# Altium schematic symbol library Terminal_Blocks_Barrier_9.5mm.SchLib: 9 symbols
Pins are listed as number, name and electrical type; pins without a type are passive.

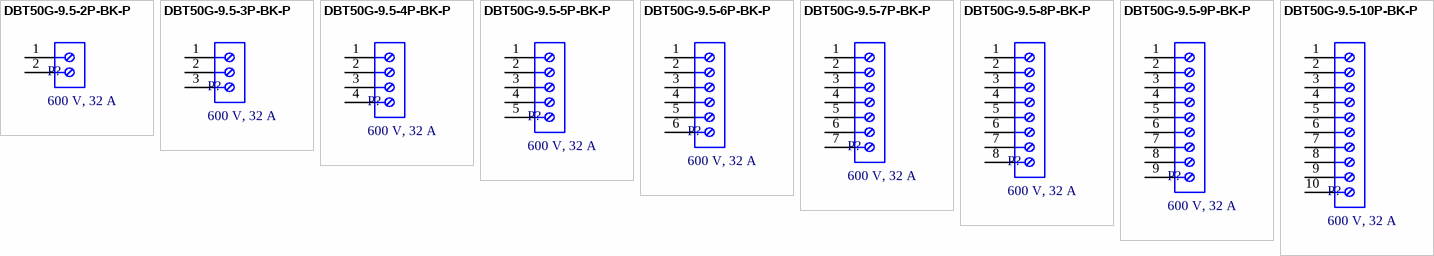
[diagram p0: symbols DBT50G-9.5-2P-BK-P to DBT50G-9.5-10P-BK-P]

## DBT50G-9.5-2P-BK-P
designator P?, comment 600 V, 32 A
1x2P Corner With Cover Plate 2 1 9.5mm -40℃~+105℃ 32A 750V Black 12~22 Straight Needle 4 Plugin,P=9.5mm Barrier Terminal Blocks ROHS; Manufacturer Part Number: DBT50G-9.5-2P-BK-P OGC; Manufacturer: DORABO; Match Code: DBT; Working Voltage: 600 V; Application: With Cover Plate; Category: Terminal Blocks; ComponentLink1Description: Datasheet; ComponentLink1URL: https://www.lcsc.com/datasheet/C395958.pdf?spm=wm.sxq.inf.ggs___wm.fly.bg.0.xh&lcsc_vid=FQMKBABWTgUIBQJQFFEMBgBUFFIPVlNeFQReAQVWFFgxVlNeQVhYV1ZeTlNXUzsOAxUeFF5JWBYZEEoKFBINSQcJGk4NBhADEA4cHktXR1JaSQwSGg0%3D; LCSC Part #: C395958; Mount: Through Hole; Number of Pins: 2; Number of Rows: 1; Operating Temperature Max: 105°C; Operating Temperature Min: -40°C; Orientation: Horizontal; Packaging: Box; Pitch: 9.5 mm; Rated Current: 32 A; Supplier 1 Part Number: N/A; Supplier 1 URL: N/A; Supplier 1: Mouser; Supplier 2 Part Number: N/A; Supplier 2 URL: N/A; Supplier 2: Digi-Key; Supplier 3 Part Number: N/A; Supplier 3 URL: N/A; Supplier 3: thegioiic; Value: 600 V, 32 A
footprint DBT50G-9.5-2P-BK-P
pins: 1, 2

## DBT50G-9.5-3P-BK-P
designator P?, comment 600 V, 32 A
1x3P Corner With Cover Plate 3 1 9.5mm -40℃~+105℃ 32A 750V Black 12~22 Straight Needle 4 Plugin,P=9.5mm Barrier Terminal Blocks ROHS; Manufacturer: DORABO; Manufacturer Part Number: DBT50G-9.5-3P-BK-P OGC; Match Code: DBT; Working Voltage: 600 V; Application: With Cover Plate; Category: Terminal Blocks; ComponentLink1Description: Datasheet; ComponentLink1URL: https://www.lcsc.com/datasheet/C395958.pdf?spm=wm.sxq.inf.ggs___wm.fly.bg.0.xh&lcsc_vid=FQMKBABWTgUIBQJQFFEMBgBUFFIPVlNeFQReAQVWFFgxVlNeQVhYV1ZeTlNXUzsOAxUeFF5JWBYZEEoKFBINSQcJGk4NBhADEA4cHktXR1JaSQwSGg0%3D; Mount: Through Hole; Number of Pins: 3; Number of Rows: 1; Operating Temperature Max: 105°C; Operating Temperature Min: -40°C; Orientation: Horizontal; Packaging: Box; Pitch: 9.5 mm; Rated Current: 32 A; Supplier 1 Part Number: N/A; Supplier 1 URL: N/A; Supplier 1: Mouser; Supplier 2 Part Number: N/A; Supplier 2 URL: N/A; Supplier 2: Digi-Key; Supplier 3 Part Number: N/A; Supplier 3 URL: N/A; Supplier 3: thegioiic; Value: 600 V, 32 A; LCSC Part #: C395959
footprint DBT50G-9.5-3P-BK-P
pins: 1, 2, 3

## DBT50G-9.5-4P-BK-P
designator P?, comment 600 V, 32 A
1x4P Corner With Cover Plate 4 1 9.5mm -40℃~+105℃ 32A 750V Black 12~22 Straight Needle 4 Plugin,P=9.5mm Barrier Terminal Blocks ROHS; Manufacturer: DORABO; Manufacturer Part Number: DBT50G-9.5-4P-BK-P OGC; Match Code: DBT; Working Voltage: 600 V; Application: With Cover Plate; Category: Terminal Blocks; ComponentLink1Description: Datasheet; ComponentLink1URL: https://www.lcsc.com/datasheet/C395958.pdf?spm=wm.sxq.inf.ggs___wm.fly.bg.0.xh&lcsc_vid=FQMKBABWTgUIBQJQFFEMBgBUFFIPVlNeFQReAQVWFFgxVlNeQVhYV1ZeTlNXUzsOAxUeFF5JWBYZEEoKFBINSQcJGk4NBhADEA4cHktXR1JaSQwSGg0%3D; Mount: Through Hole; Number of Pins: 4; Number of Rows: 1; Operating Temperature Max: 105°C; Operating Temperature Min: -40°C; Orientation: Horizontal; Packaging: Box; Pitch: 9.5 mm; Rated Current: 32 A; Supplier 1 Part Number: N/A; Supplier 1 URL: N/A; Supplier 1: Mouser; Supplier 2 Part Number: N/A; Supplier 2 URL: N/A; Supplier 2: Digi-Key; Supplier 3 Part Number: N/A; Supplier 3 URL: N/A; Supplier 3: thegioiic; Value: 600 V, 32 A; LCSC Part #: C395960
footprint DBT50G-9.5-4P-BK-P
pins: 1, 2, 3, 4

## DBT50G-9.5-5P-BK-P
designator P?, comment 600 V, 32 A
1x5P Corner With Cover Plate 5 1 9.5mm -40℃~+105℃ 32A 750V Black 12~22 Straight Needle 4 Plugin,P=9.5mm Barrier Terminal Blocks ROHS; Manufacturer: DORABO; Manufacturer Part Number: DBT50G-9.5-5P-BK-P OGC; Match Code: DBT; Working Voltage: 600 V; Application: With Cover Plate; Category: Terminal Blocks; ComponentLink1Description: Datasheet; ComponentLink1URL: https://www.lcsc.com/datasheet/C395958.pdf?spm=wm.sxq.inf.ggs___wm.fly.bg.0.xh&lcsc_vid=FQMKBABWTgUIBQJQFFEMBgBUFFIPVlNeFQReAQVWFFgxVlNeQVhYV1ZeTlNXUzsOAxUeFF5JWBYZEEoKFBINSQcJGk4NBhADEA4cHktXR1JaSQwSGg0%3D; Mount: Through Hole; Number of Pins: 5; Number of Rows: 1; Operating Temperature Max: 105°C; Operating Temperature Min: -40°C; Orientation: Horizontal; Packaging: Box; Pitch: 9.5 mm; Rated Current: 32 A; Supplier 1 Part Number: N/A; Supplier 1 URL: N/A; Supplier 1: Mouser; Supplier 2 Part Number: N/A; Supplier 2 URL: N/A; Supplier 2: Digi-Key; Supplier 3 Part Number: N/A; Supplier 3 URL: N/A; Supplier 3: thegioiic; Value: 600 V, 32 A; LCSC Part #: C395961
footprint DBT50G-9.5-5P-BK-P
pins: 1, 2, 3, 4, 5

## DBT50G-9.5-6P-BK-P
designator P?, comment 600 V, 32 A
1x6P Corner With Cover Plate 6 1 9.5mm -40℃~+105℃ 32A 750V Black 12~22 Straight Needle 4 Plugin,P=9.5mm Barrier Terminal Blocks ROHS; Manufacturer: DORABO; Manufacturer Part Number: DBT50G-9.5-6P-BK-P OGC; Match Code: DBT; Working Voltage: 600 V; Application: With Cover Plate; Category: Terminal Blocks; ComponentLink1Description: Datasheet; ComponentLink1URL: https://www.lcsc.com/datasheet/C395958.pdf?spm=wm.sxq.inf.ggs___wm.fly.bg.0.xh&lcsc_vid=FQMKBABWTgUIBQJQFFEMBgBUFFIPVlNeFQReAQVWFFgxVlNeQVhYV1ZeTlNXUzsOAxUeFF5JWBYZEEoKFBINSQcJGk4NBhADEA4cHktXR1JaSQwSGg0%3D; Mount: Through Hole; Number of Pins: 6; Number of Rows: 1; Operating Temperature Max: 105°C; Operating Temperature Min: -40°C; Orientation: Horizontal; Packaging: Box; Pitch: 9.5 mm; Rated Current: 32 A; Supplier 1 Part Number: N/A; Supplier 1 URL: N/A; Supplier 1: Mouser; Supplier 2 Part Number: N/A; Supplier 2 URL: N/A; Supplier 2: Digi-Key; Supplier 3 Part Number: N/A; Supplier 3 URL: N/A; Supplier 3: thegioiic; Value: 600 V, 32 A; LCSC Part #: C430698
footprint DBT50G-9.5-6P-BK-P
pins: 1, 2, 3, 4, 5, 6

## DBT50G-9.5-7P-BK-P
designator P?, comment 600 V, 32 A
1x7P Corner With Cover Plate 7 1 9.5mm -40℃~+105℃ 32A 750V Black 12~22 Straight Needle 4 Plugin,P=9.5mm Barrier Terminal Blocks ROHS; Manufacturer: DORABO; Manufacturer Part Number: DBT50G-9.5-7P-BK-P OGC; Match Code: DBT; Working Voltage: 600 V; Application: With Cover Plate; Category: Terminal Blocks; ComponentLink1Description: Datasheet; ComponentLink1URL: https://www.lcsc.com/datasheet/C395958.pdf?spm=wm.sxq.inf.ggs___wm.fly.bg.0.xh&lcsc_vid=FQMKBABWTgUIBQJQFFEMBgBUFFIPVlNeFQReAQVWFFgxVlNeQVhYV1ZeTlNXUzsOAxUeFF5JWBYZEEoKFBINSQcJGk4NBhADEA4cHktXR1JaSQwSGg0%3D; Mount: Through Hole; Number of Pins: 7; Number of Rows: 1; Operating Temperature Max: 105°C; Operating Temperature Min: -40°C; Orientation: Horizontal; Packaging: Box; Pitch: 9.5 mm; Rated Current: 32 A; Supplier 1 Part Number: N/A; Supplier 1 URL: N/A; Supplier 1: Mouser; Supplier 2 Part Number: N/A; Supplier 2 URL: N/A; Supplier 2: Digi-Key; Supplier 3 Part Number: N/A; Supplier 3 URL: N/A; Supplier 3: thegioiic; Value: 600 V, 32 A; LCSC Part #: C395962
footprint DBT50G-9.5-7P-BK-P
pins: 1, 2, 3, 4, 5, 6, 7

## DBT50G-9.5-8P-BK-P
designator P?, comment 600 V, 32 A
1x8P Corner With Cover Plate 8 1 9.5mm -40℃~+105℃ 32A 750V Black 12~22 Straight Needle 4 Plugin,P=9.5mm Barrier Terminal Blocks ROHS; Manufacturer: DORABO; Manufacturer Part Number: DBT50G-9.5-8P-BK-P OGC; Match Code: DBT; Working Voltage: 600 V; Application: With Cover Plate; Category: Terminal Blocks; ComponentLink1Description: Datasheet; ComponentLink1URL: https://www.lcsc.com/datasheet/C395958.pdf?spm=wm.sxq.inf.ggs___wm.fly.bg.0.xh&lcsc_vid=FQMKBABWTgUIBQJQFFEMBgBUFFIPVlNeFQReAQVWFFgxVlNeQVhYV1ZeTlNXUzsOAxUeFF5JWBYZEEoKFBINSQcJGk4NBhADEA4cHktXR1JaSQwSGg0%3D; Mount: Through Hole; Number of Pins: 8; Number of Rows: 1; Operating Temperature Max: 105°C; Operating Temperature Min: -40°C; Orientation: Horizontal; Packaging: Box; Pitch: 9.5 mm; Rated Current: 32 A; Supplier 1 Part Number: N/A; Supplier 1 URL: N/A; Supplier 1: Mouser; Supplier 2 Part Number: N/A; Supplier 2 URL: N/A; Supplier 2: Digi-Key; Supplier 3 Part Number: N/A; Supplier 3 URL: N/A; Supplier 3: thegioiic; Value: 600 V, 32 A; LCSC Part #: C430699
footprint DBT50G-9.5-8P-BK-P
pins: 1, 2, 3, 4, 5, 6, 7, 8

## DBT50G-9.5-9P-BK-P
designator P?, comment 600 V, 32 A
1x9P Corner With Cover Plate 9 1 9.5mm -40℃~+105℃ 32A 750V Black 12~22 Straight Needle 4 Plugin,P=9.5mm Barrier Terminal Blocks ROHS; Manufacturer: DORABO; Manufacturer Part Number: DBT50G-9.5-9P-BK-P OGC; Match Code: DBT; Working Voltage: 600 V; Application: With Cover Plate; Category: Terminal Blocks; ComponentLink1Description: Datasheet; ComponentLink1URL: https://www.lcsc.com/datasheet/C395958.pdf?spm=wm.sxq.inf.ggs___wm.fly.bg.0.xh&lcsc_vid=FQMKBABWTgUIBQJQFFEMBgBUFFIPVlNeFQReAQVWFFgxVlNeQVhYV1ZeTlNXUzsOAxUeFF5JWBYZEEoKFBINSQcJGk4NBhADEA4cHktXR1JaSQwSGg0%3D; Mount: Through Hole; Number of Pins: 9; Number of Rows: 1; Operating Temperature Max: 105°C; Operating Temperature Min: -40°C; Orientation: Horizontal; Packaging: Box; Pitch: 9.5 mm; Rated Current: 32 A; Supplier 1 Part Number: N/A; Supplier 1 URL: N/A; Supplier 1: Mouser; Supplier 2 Part Number: N/A; Supplier 2 URL: N/A; Supplier 2: Digi-Key; Supplier 3 Part Number: N/A; Supplier 3 URL: N/A; Supplier 3: thegioiic; Value: 600 V, 32 A; LCSC Part #: C395963
footprint DBT50G-9.5-9P-BK-P
pins: 1, 2, 3, 4, 5, 6, 7, 8, 9

## DBT50G-9.5-10P-BK-P
designator P?, comment 600 V, 32 A
1x10P Corner With Cover Plate 10 1 9.5mm -40℃~+105℃ 32A 750V Black 12~22 Straight Needle 4 Plugin,P=9.5mm Barrier Terminal Blocks ROHS; Manufacturer: DORABO; Manufacturer Part Number: DBT50G-9.5-10P-BK-P OGC; Match Code: DBT; Working Voltage: 600 V; Application: With Cover Plate; Category: Terminal Blocks; ComponentLink1Description: Datasheet; ComponentLink1URL: https://www.lcsc.com/datasheet/C395958.pdf?spm=wm.sxq.inf.ggs___wm.fly.bg.0.xh&lcsc_vid=FQMKBABWTgUIBQJQFFEMBgBUFFIPVlNeFQReAQVWFFgxVlNeQVhYV1ZeTlNXUzsOAxUeFF5JWBYZEEoKFBINSQcJGk4NBhADEA4cHktXR1JaSQwSGg0%3D; Mount: Through Hole; Number of Pins: 10; Number of Rows: 1; Operating Temperature Max: 105°C; Operating Temperature Min: -40°C; Orientation: Horizontal; Packaging: Box; Pitch: 9.5 mm; Rated Current: 32 A; Supplier 1 Part Number: N/A; Supplier 1 URL: N/A; Supplier 1: Mouser; Supplier 2 Part Number: N/A; Supplier 2 URL: N/A; Supplier 2: Digi-Key; Supplier 3 Part Number: N/A; Supplier 3 URL: N/A; Supplier 3: thegioiic; Value: 600 V, 32 A; LCSC Part #: C5205218
footprint DBT50G-9.5-10P-BK-P
pins: 1, 2, 3, 4, 5, 6, 7, 8, 9, 10